# Altium schematic symbol library power_management.SchLib: 1 symbol
Pins are listed as number, name and electrical type; pins without a type are passive.

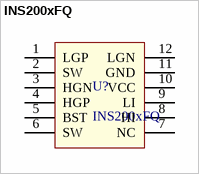
[diagram p0: symbol INS200xFQ]

## INS200xFQ
designator U?
footprint QFN12 (Quad Flat No-Lead (QFN), 0.65 mm pitch; 12 pin, square, 3 pin X 3 pin, 3.00 mm L X 3.00 mm W X 0.95 mm H body)
pins: 1 LGP, 2 SW, 3 HGN, 4 HGP, 5 BST, 6 SW, 7 NC, 8 HI, 9 LI, 10 VCC, 11 GND, 12 LGN